# Altium footprint library PCB - CONNECTOR - WURTH - 61300911121.PCBLIB: 1 footprints
Each footprint in its own frame and in the unit in brackets; x right, y up, seen from the top. Pads: shape width x height; smd on the part's side, far side on the other; paste and mask are expansions set on the pad; w line width, h text height; cw(c..) or ccw(c..) is an arc to the next point about the centre after c.
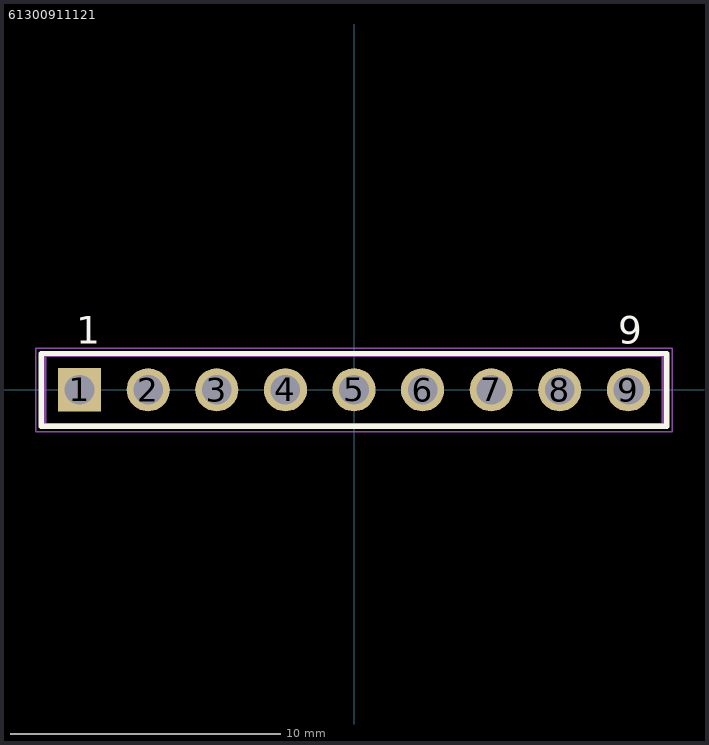
[diagram p0: the footprint, top view; thin cyan lines are the x and y axes]

## 61300911121 [mm] "Pin Header, pitch 2.54 mm, THT, Vertical, single row, 9p"
height 8.54
pads (9):
  rect 1.6x1.6 hole 1.1: 1(-10.16,0)
  round 1.6 hole 1.1: 2(-7.62,0) 3(-5.08,0) 4(-2.54,0) 5(0,0) 6(2.54,0) 7(5.08,0) 8(7.62,0) 9(10.16,0)
Top Overlay:
  lines w0.2: -11.58,-1.345 11.58,-1.345 11.58,1.345 -11.58,1.345 -11.58,-1.345
  text "1" at -10.28,1.7 h1.02
  text "9" at 9.78,1.7 h1.02
Top 3D Body:
  lines w0.1: -11.43,-1.27 11.43,-1.27 11.43,1.27 -11.43,1.27 -11.43,-1.27
Top Courtyard:
  lines w0.05: -11.78,-1.545 11.78,-1.545 11.78,1.545 -11.78,1.545 -11.78,-1.545
Top Component Center:
  lines w0.05: -0.5,0 0.5,0 ; 0,-0.5 0,0.5
3D body "61300911121.stp": height 8.57, standoff -2.97, extent -11.43,-1.27 11.43,1.27